# Altium footprint library con-molex-micro-fit-3_0.PCBLIB: 194 footprints (part 6 of 13)
Each footprint in its own frame and in the unit in brackets; x right, y up, seen from the top. Pads: shape width x height; smd on the part's side, far side on the other; paste and mask are expansions set on the pad; w line width, h text height; cw(c..) or ccw(c..) is an arc to the next point about the centre after c.
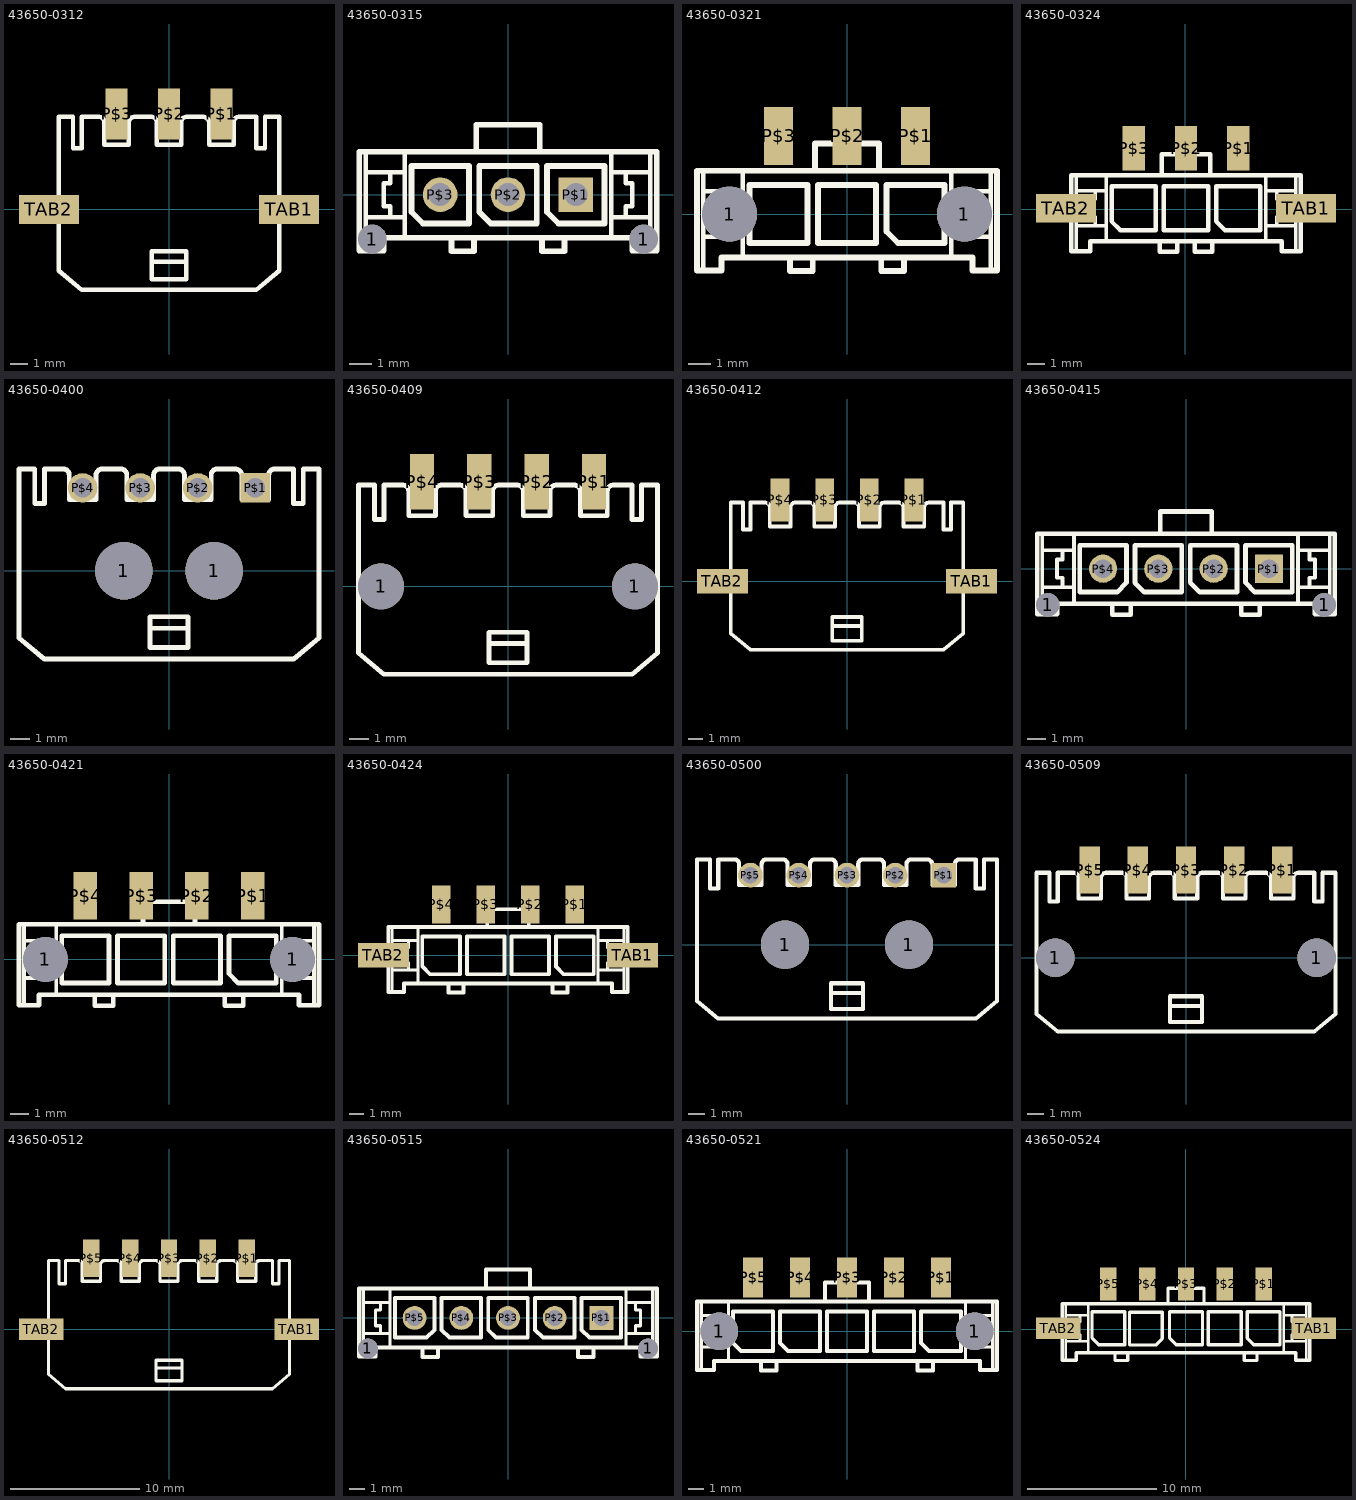
[diagram p5: the footprints below, top view; thin cyan lines are the x and y axes]

## 43650-0312 [mm]
pads (5):
  rect 1.27x2.92 smd: P$1(3,5.48) P$2(0,5.48) P$3(-3,5.48)
  rect 3.43x1.65 smd: TAB1(6.88,0) TAB2(-6.88,0)
Top Overlay:
  lines w0.254: -1,-3 -1,-4 1,-4 1,-3 ; -1,-3 -1,-2.4 1,-2.4 1,-3 ; -1,-3 1,-3 ; -6.32,-3.5 -6.32,5.3 -5.5,5.3 -5.5,3.5 -5,3.5 -5,5.3 -4,5.3 cw(c-4,5) -3.7,5 -3.7,3.7 -2.3,3.7 -2.3,5 cw(c-2,5) -2,5.3 -1,5.3 cw(c-1,5) -0.7,5 -0.7,3.7 0.7,3.7 0.7,5 cw(c1,5) 1,5.3 2,5.3 cw(c1.95,4.95) 2.3,5 2.3,3.7 3.7,3.7 3.7,5 cw(c4,5) 4,5.3 5,5.3 5,3.5 5.5,3.5 5.5,5.3 6.32,5.3 6.32,-3.5 5,-4.6 -5,-4.6 -6.32,-3.5

## 43650-0315 [mm]
pads (5):
  round 1.27 hole 1.27: 1(-6,-1.96) 1(6,-1.96)
  rect 1.53x1.53 hole 1.02: P$1(3,0)
  round 1.53 hole 1.02: P$2(0,0) P$3(-3,0)
Top Overlay:
  lines w0.2: -6.3,-2.47 -6.3,-1 ; -6.3,1.9 -6.3,1 ; -4.57,-1.9 -4.57,-1 ; -4.57,1.9 -4.57,1 ; 4.57,-1.9 4.57,-1 ; 4.57,1.9 4.57,1 ; 6.3,-2.47 6.3,-1 ; 6.3,1.9 6.3,1 ; -6.3,-1 -6.3,1 ; -6.3,-1 -5.2,-1 ; -6.3,1 -5.2,1 ; -5.2,-1 -4.57,-1 ; -5.2,-1 -5.2,-0.5 -5.5,-0.5 -5.5,0.5 -5.2,0.5 -5.2,1 ; -5.2,1 -4.57,1 ; -4.57,-1 -4.57,1 ; 4.57,-1 4.57,1 ; 4.57,-1 5.2,-1 ; 4.57,1 5.2,1 ; 5.2,-1 6.3,-1 ; 5.2,-1 5.2,-0.5 5.5,-0.5 5.5,0.5 5.2,0.5 5.2,1 ; 5.2,1 6.3,1 ; 6.3,-1 6.3,1
  lines w0.254: -2.5,-1.9 -1.5,-1.9 ; -2.5,-1.9 -4.57,-1.9 -5.5,-1.9 -5.5,-2.47 -6.3,-2.47 -6.575,-2.47 -6.575,1.9 -6.3,1.9 -4.57,1.9 -1.4,1.9 ; -2.5,-1.9 -2.5,-2.5 -1.5,-2.5 -1.5,-1.9 ; -1.5,-1.9 1.5,-1.9 ; -1.4,1.9 1.4,1.9 ; -1.4,1.9 -1.4,3.1 1.4,3.1 1.4,1.9 ; 1.4,1.9 4.57,1.9 6.3,1.9 6.575,1.9 6.575,-2.47 6.3,-2.47 5.5,-2.47 5.5,-1.9 4.57,-1.9 2.5,-1.9 ; 1.5,-1.9 2.5,-1.9 ; 1.5,-1.9 1.5,-2.5 2.5,-2.5 2.5,-1.9 ; -4.27,-0.762 -4.27,1.27 -1.73,1.27 -1.73,-1.27 -3.762,-1.27 -4.27,-0.762 ; -1.27,-0.762 -1.27,1.27 1.27,1.27 1.27,-1.27 -0.762,-1.27 -1.27,-0.762 ; 1.73,-0.762 1.73,1.27 4.27,1.27 4.27,-1.27 2.238,-1.27 1.73,-0.762

## 43650-0321 [mm]
pads (5):
  round 2.41 hole 2.41: 1(-5.15,0) 1(5.15,0)
  rect 1.27x2.54 smd: P$1(3,3.43) P$2(0,3.43) P$3(-3,3.43)
Top Overlay:
  lines w0.2: -6.3,-2.47 -6.3,-1 ; -6.3,1.9 -6.3,1 ; -4.57,-1.9 -4.57,-1 ; -4.57,1.9 -4.57,1 ; 4.57,-1.9 4.57,-1 ; 4.57,1.9 4.57,1 ; 6.3,-2.47 6.3,-1 ; 6.3,1.9 6.3,1 ; -6.3,-1 -6.3,1 ; -6.3,-1 -5.2,-1 ; -6.3,1 -5.2,1 ; -5.2,-1 -4.57,-1 ; -5.2,-1 -5.2,-0.5 -5.5,-0.5 -5.5,0.5 -5.2,0.5 -5.2,1 ; -5.2,1 -4.57,1 ; -4.57,-1 -4.57,1 ; 4.57,-1 4.57,1 ; 4.57,-1 5.2,-1 ; 4.57,1 5.2,1 ; 5.2,-1 6.3,-1 ; 5.2,-1 5.2,-0.5 5.5,-0.5 5.5,0.5 5.2,0.5 5.2,1 ; 5.2,1 6.3,1 ; 6.3,-1 6.3,1
  lines w0.254: -2.5,-1.9 -1.5,-1.9 ; -2.5,-1.9 -4.57,-1.9 -5.5,-1.9 -5.5,-2.47 -6.3,-2.47 -6.575,-2.47 -6.575,1.9 -6.3,1.9 -4.57,1.9 -1.4,1.9 ; -2.5,-1.9 -2.5,-2.5 -1.5,-2.5 -1.5,-1.9 ; -1.5,-1.9 1.5,-1.9 ; -1.4,1.9 1.4,1.9 ; -1.4,1.9 -1.4,3.1 1.4,3.1 1.4,1.9 ; 1.4,1.9 4.57,1.9 6.3,1.9 6.575,1.9 6.575,-2.47 6.3,-2.47 5.5,-2.47 5.5,-1.9 4.57,-1.9 2.5,-1.9 ; 1.5,-1.9 2.5,-1.9 ; 1.5,-1.9 1.5,-2.5 2.5,-2.5 2.5,-1.9 ; -4.27,-1.27 -1.73,-1.27 -1.73,1.27 -4.27,1.27 -4.27,-1.27 ; -1.27,-1.27 1.27,-1.27 1.27,1.27 -1.27,1.27 -1.27,-1.27 ; 1.73,-0.762 1.73,1.27 4.27,1.27 4.27,-1.27 2.238,-1.27 1.73,-0.762

## 43650-0324 [mm]
pads (5):
  rect 1.27x2.54 smd: P$1(3.036,3.503) P$2(0.036,3.503) P$3(-2.964,3.503)
  rect 3.43x1.65 smd: TAB1(6.926,0.073) TAB2(-6.854,0.073)
Top Overlay:
  lines w0.2: -6.264,-2.397 -6.264,-0.927 ; -6.264,1.973 -6.264,1.073 ; -4.534,-1.827 -4.534,-0.927 ; -4.534,1.973 -4.534,1.073 ; 4.606,-1.827 4.606,-0.927 ; 4.606,1.973 4.606,1.073 ; 6.336,-2.397 6.336,-0.927 ; 6.336,1.973 6.336,1.073 ; -6.264,-0.927 -6.264,1.073 ; -6.264,-0.927 -5.164,-0.927 ; -6.264,1.073 -5.164,1.073 ; -5.164,-0.927 -4.534,-0.927 ; -5.164,-0.927 -5.164,-0.427 -5.464,-0.427 -5.464,0.573 -5.164,0.573 -5.164,1.073 ; -5.164,1.073 -4.534,1.073 ; -4.534,-0.927 -4.534,1.073 ; 4.606,-0.927 4.606,1.073 ; 4.606,-0.927 5.236,-0.927 ; 4.606,1.073 5.236,1.073 ; 5.236,-0.927 6.336,-0.927 ; 5.236,-0.927 5.236,-0.427 5.536,-0.427 5.536,0.573 5.236,0.573 5.236,1.073 ; 5.236,1.073 6.336,1.073 ; 6.336,-0.927 6.336,1.073
  lines w0.254: -1.464,-1.827 -0.464,-1.827 ; -1.464,-1.827 -4.534,-1.827 -5.464,-1.827 -5.464,-2.397 -6.264,-2.397 -6.539,-2.397 -6.539,1.973 -6.264,1.973 -4.534,1.973 -1.364,1.973 ; -1.464,-1.827 -1.464,-2.427 -0.464,-2.427 -0.464,-1.827 ; -1.364,1.973 1.436,1.973 ; -1.364,1.973 -1.364,3.173 1.436,3.173 1.436,1.973 ; -0.464,-1.827 0.536,-1.827 ; 0.536,-1.827 1.536,-1.827 ; 0.536,-1.827 0.536,-2.427 1.536,-2.427 1.536,-1.827 ; 1.436,1.973 4.606,1.973 6.336,1.973 6.611,1.973 6.611,-2.397 6.336,-2.397 5.536,-2.397 5.536,-1.827 4.606,-1.827 1.536,-1.827 ; -4.234,-0.689 -4.234,1.343 -1.694,1.343 -1.694,-1.197 -3.726,-1.197 -4.234,-0.689 ; -1.234,-1.197 1.306,-1.197 1.306,1.343 -1.234,1.343 -1.234,-1.197 ; 1.766,-0.689 1.766,1.343 4.306,1.343 4.306,-1.197 2.274,-1.197 1.766,-0.689

## 43650-0400 [mm]
pads (6):
  round 3 hole 3: 1(-2.35,0) 1(2.35,0)
  rect 1.53x1.53 hole 1.02: P$1(4.5,4.32)
  round 1.53 hole 1.02: P$2(1.5,4.32) P$3(-1.5,4.32) P$4(-4.5,4.32)
Top Overlay:
  lines w0.254: -1,-3 -1,-4 1,-4 1,-3 ; -1,-3 -1,-2.4 1,-2.4 1,-3 ; -1,-3 1,-3 ; -7.82,-3.5 -7.82,5.3 -7,5.3 -7,3.5 -6.5,3.5 -6.5,5.3 -5.5,5.3 cw(c-5.5,5) -5.2,5 -5.2,3.7 -3.8,3.7 -3.8,5 cw(c-3.5,5) -3.5,5.3 -2.5,5.3 cw(c-2.5,5) -2.2,5 -2.2,3.7 -0.8,3.7 -0.8,5 cw(c-0.5,5) -0.5,5.3 0.5,5.3 cw(c0.5,5) 0.8,5 0.8,3.7 2.2,3.7 2.2,5 cw(c2.5,5) 2.5,5.3 3.5,5.3 cw(c3.45,4.95) 3.8,5 3.8,3.7 5.2,3.7 5.2,5 cw(c5.5,5) 5.5,5.3 6.5,5.3 6.5,3.5 7,3.5 7,5.3 7.82,5.3 7.82,-3.5 6.5,-4.6 -6.5,-4.6 -7.82,-3.5

## 43650-0409 [mm]
pads (6):
  round 2.41 hole 2.41: 1(-6.65,0) 1(6.65,0)
  rect 1.27x2.92 smd: P$1(4.5,5.48) P$2(1.5,5.48) P$3(-1.5,5.48) P$4(-4.5,5.48)
Top Overlay:
  lines w0.254: -1,-3 -1,-4 1,-4 1,-3 ; -1,-3 -1,-2.4 1,-2.4 1,-3 ; -1,-3 1,-3 ; -7.82,-3.5 -7.82,5.3 -7,5.3 -7,3.5 -6.5,3.5 -6.5,5.3 -5.5,5.3 cw(c-5.5,5) -5.2,5 -5.2,3.7 -3.8,3.7 -3.8,5 cw(c-3.5,5) -3.5,5.3 -2.5,5.3 cw(c-2.5,5) -2.2,5 -2.2,3.7 -0.8,3.7 -0.8,5 cw(c-0.5,5) -0.5,5.3 0.5,5.3 cw(c0.5,5) 0.8,5 0.8,3.7 2.2,3.7 2.2,5 cw(c2.5,5) 2.5,5.3 3.5,5.3 cw(c3.45,4.95) 3.8,5 3.8,3.7 5.2,3.7 5.2,5 cw(c5.5,5) 5.5,5.3 6.5,5.3 6.5,3.5 7,3.5 7,5.3 7.82,5.3 7.82,-3.5 6.5,-4.6 -6.5,-4.6 -7.82,-3.5

## 43650-0412 [mm]
pads (6):
  rect 1.27x2.92 smd: P$1(4.5,5.48) P$2(1.5,5.48) P$3(-1.5,5.48) P$4(-4.5,5.48)
  rect 3.43x1.65 smd: TAB1(8.38,0) TAB2(-8.38,0)
Top Overlay:
  lines w0.254: -1,-3 -1,-4 1,-4 1,-3 ; -1,-3 -1,-2.4 1,-2.4 1,-3 ; -1,-3 1,-3 ; -7.82,-3.5 -7.82,5.3 -7,5.3 -7,3.5 -6.5,3.5 -6.5,5.3 -5.5,5.3 cw(c-5.5,5) -5.2,5 -5.2,3.7 -3.8,3.7 -3.8,5 cw(c-3.5,5) -3.5,5.3 -2.5,5.3 cw(c-2.5,5) -2.2,5 -2.2,3.7 -0.8,3.7 -0.8,5 cw(c-0.5,5) -0.5,5.3 0.5,5.3 cw(c0.5,5) 0.8,5 0.8,3.7 2.2,3.7 2.2,5 cw(c2.5,5) 2.5,5.3 3.5,5.3 cw(c3.45,4.95) 3.8,5 3.8,3.7 5.2,3.7 5.2,5 cw(c5.5,5) 5.5,5.3 6.5,5.3 6.5,3.5 7,3.5 7,5.3 7.82,5.3 7.82,-3.5 6.5,-4.6 -6.5,-4.6 -7.82,-3.5

## 43650-0415 [mm]
pads (6):
  round 1.27 hole 1.27: 1(-7.5,-1.96) 1(7.5,-1.96)
  rect 1.53x1.53 hole 1.02: P$1(4.5,0)
  round 1.53 hole 1.02: P$2(1.5,0) P$3(-1.5,0) P$4(-4.5,0)
Top Overlay:
  lines w0.2: -7.8,-2.47 -7.8,-1 ; -7.8,1.9 -7.8,1 ; -6.07,-1.9 -6.07,-1 ; -6.07,1.9 -6.07,1 ; 6.07,-1.9 6.07,-1 ; 6.07,1.9 6.07,1 ; 7.8,-2.47 7.8,-1 ; 7.8,1.9 7.8,1 ; -7.8,-1 -7.8,1 ; -7.8,-1 -6.7,-1 ; -7.8,1 -6.7,1 ; -6.7,-1 -6.07,-1 ; -6.7,-1 -6.7,-0.5 -7,-0.5 -7,0.5 -6.7,0.5 -6.7,1 ; -6.7,1 -6.07,1 ; -6.07,-1 -6.07,1 ; 6.07,-1 6.07,1 ; 6.07,-1 6.7,-1 ; 6.07,1 6.7,1 ; 6.7,-1 7.8,-1 ; 6.7,-1 6.7,-0.5 7,-0.5 7,0.5 6.7,0.5 6.7,1 ; 6.7,1 7.8,1 ; 7.8,-1 7.8,1
  lines w0.254: -4,-1.9 -3,-1.9 ; -4,-1.9 -6.07,-1.9 -7,-1.9 -7,-2.47 -7.8,-2.47 -8.075,-2.47 -8.075,1.9 -7.8,1.9 -6.07,1.9 -1.4,1.9 ; -4,-1.9 -4,-2.5 -3,-2.5 -3,-1.9 ; -3,-1.9 3,-1.9 ; -1.4,1.9 1.4,1.9 ; -1.4,1.9 -1.4,3.1 1.4,3.1 1.4,1.9 ; 1.4,1.9 6.07,1.9 7.8,1.9 8.075,1.9 8.075,-2.47 7.8,-2.47 7,-2.47 7,-1.9 6.07,-1.9 4,-1.9 ; 3,-1.9 4,-1.9 ; 3,-1.9 3,-2.5 4,-2.5 4,-1.9 ; -5.77,-1.27 -5.77,1.27 -3.23,1.27 -3.23,-0.762 -3.738,-1.27 -5.77,-1.27 ; -2.77,-0.762 -2.77,1.27 -0.23,1.27 -0.23,-1.27 -2.262,-1.27 -2.77,-0.762 ; 0.23,-0.762 0.23,1.27 2.77,1.27 2.77,-1.27 0.738,-1.27 0.23,-0.762 ; 3.23,-0.762 3.23,1.27 5.77,1.27 5.77,-1.27 3.738,-1.27 3.23,-0.762

## 43650-0421 [mm]
pads (6):
  round 2.41 hole 2.41: 1(-6.65,0) 1(6.65,0)
  rect 1.27x2.54 smd: P$1(4.5,3.43) P$2(1.5,3.43) P$3(-1.5,3.43) P$4(-4.5,3.43)
Top Overlay:
  lines w0.2: -7.8,-2.47 -7.8,-1 ; -7.8,1.9 -7.8,1 ; -6.07,-1.9 -6.07,-1 ; -6.07,1.9 -6.07,1 ; 6.07,-1.9 6.07,-1 ; 6.07,1.9 6.07,1 ; 7.8,-2.47 7.8,-1 ; 7.8,1.9 7.8,1 ; -7.8,-1 -7.8,1 ; -7.8,-1 -6.7,-1 ; -7.8,1 -6.7,1 ; -6.7,-1 -6.07,-1 ; -6.7,-1 -6.7,-0.5 -7,-0.5 -7,0.5 -6.7,0.5 -6.7,1 ; -6.7,1 -6.07,1 ; -6.07,-1 -6.07,1 ; 6.07,-1 6.07,1 ; 6.07,-1 6.7,-1 ; 6.07,1 6.7,1 ; 6.7,-1 7.8,-1 ; 6.7,-1 6.7,-0.5 7,-0.5 7,0.5 6.7,0.5 6.7,1 ; 6.7,1 7.8,1 ; 7.8,-1 7.8,1
  lines w0.254: -4,-1.9 -3,-1.9 ; -4,-1.9 -6.07,-1.9 -7,-1.9 -7,-2.47 -7.8,-2.47 -8.075,-2.47 -8.075,1.9 -7.8,1.9 -6.07,1.9 -1.4,1.9 ; -4,-1.9 -4,-2.5 -3,-2.5 -3,-1.9 ; -3,-1.9 3,-1.9 ; -1.4,1.9 1.4,1.9 ; -1.4,1.9 -1.4,3.1 1.4,3.1 1.4,1.9 ; 1.4,1.9 6.07,1.9 7.8,1.9 8.075,1.9 8.075,-2.47 7.8,-2.47 7,-2.47 7,-1.9 6.07,-1.9 4,-1.9 ; 3,-1.9 4,-1.9 ; 3,-1.9 3,-2.5 4,-2.5 4,-1.9 ; -5.77,-1.27 -3.23,-1.27 -3.23,1.27 -5.77,1.27 -5.77,-1.27 ; -2.77,-1.27 -0.23,-1.27 -0.23,1.27 -2.77,1.27 -2.77,-1.27 ; 0.23,-1.27 2.77,-1.27 2.77,1.27 0.23,1.27 0.23,-1.27 ; 3.23,-0.762 3.23,1.27 5.77,1.27 5.77,-1.27 3.738,-1.27 3.23,-0.762

## 43650-0424 [mm]
pads (6):
  rect 1.27x2.54 smd: P$1(4.5,3.43) P$2(1.5,3.43) P$3(-1.5,3.43) P$4(-4.5,3.43)
  rect 3.43x1.65 smd: TAB1(8.39,0) TAB2(-8.39,0)
Top Overlay:
  lines w0.2: -7.8,-2.47 -7.8,-1 ; -7.8,1.9 -7.8,1 ; -6.07,-1.9 -6.07,-1 ; -6.07,1.9 -6.07,1 ; 6.07,-1.9 6.07,-1 ; 6.07,1.9 6.07,1 ; 7.8,-2.47 7.8,-1 ; 7.8,1.9 7.8,1 ; -7.8,-1 -7.8,1 ; -7.8,-1 -6.7,-1 ; -7.8,1 -6.7,1 ; -6.7,-1 -6.07,-1 ; -6.7,-1 -6.7,-0.5 -7,-0.5 -7,0.5 -6.7,0.5 -6.7,1 ; -6.7,1 -6.07,1 ; -6.07,-1 -6.07,1 ; 6.07,-1 6.07,1 ; 6.07,-1 6.7,-1 ; 6.07,1 6.7,1 ; 6.7,-1 7.8,-1 ; 6.7,-1 6.7,-0.5 7,-0.5 7,0.5 6.7,0.5 6.7,1 ; 6.7,1 7.8,1 ; 7.8,-1 7.8,1
  lines w0.254: -4,-1.9 -3,-1.9 ; -4,-1.9 -6.07,-1.9 -7,-1.9 -7,-2.47 -7.8,-2.47 -8.075,-2.47 -8.075,1.9 -7.8,1.9 -6.07,1.9 -1.4,1.9 ; -4,-1.9 -4,-2.5 -3,-2.5 -3,-1.9 ; -3,-1.9 3,-1.9 ; -1.4,1.9 1.4,1.9 ; -1.4,1.9 -1.4,3.1 1.4,3.1 1.4,1.9 ; 1.4,1.9 6.07,1.9 7.8,1.9 8.075,1.9 8.075,-2.47 7.8,-2.47 7,-2.47 7,-1.9 6.07,-1.9 4,-1.9 ; 3,-1.9 4,-1.9 ; 3,-1.9 3,-2.5 4,-2.5 4,-1.9 ; -5.77,-0.762 -5.77,1.27 -3.23,1.27 -3.23,-1.27 -5.262,-1.27 -5.77,-0.762 ; -2.77,-1.27 -0.23,-1.27 -0.23,1.27 -2.77,1.27 -2.77,-1.27 ; 0.23,-1.27 2.77,-1.27 2.77,1.27 0.23,1.27 0.23,-1.27 ; 3.23,-0.762 3.23,1.27 5.77,1.27 5.77,-1.27 3.738,-1.27 3.23,-0.762

## 43650-0500 [mm]
pads (7):
  round 3 hole 3: 1(-3.85,0) 1(3.85,0)
  rect 1.53x1.53 hole 1.02: P$1(6,4.32)
  round 1.53 hole 1.02: P$2(3,4.32) P$3(0,4.32) P$4(-3,4.32) P$5(-6,4.32)
Top Overlay:
  lines w0.254: -1,-3 -1,-4 1,-4 1,-3 ; -1,-3 -1,-2.4 1,-2.4 1,-3 ; -1,-3 1,-3 ; -9.32,-3.5 -9.32,5.3 -8.5,5.3 -8.5,3.5 -8,3.5 -8,5.3 -7,5.3 cw(c-7,5) -6.7,5 -6.7,3.7 -5.3,3.7 -5.3,5 cw(c-5,5) -5,5.3 -4,5.3 cw(c-4,5) -3.7,5 -3.7,3.7 -2.3,3.7 -2.3,5 cw(c-2,5) -2,5.3 -1,5.3 cw(c-1,5) -0.7,5 -0.7,3.7 0.7,3.7 0.7,5 cw(c1,5) 1,5.3 2,5.3 cw(c2,5) 2.3,5 2.3,3.7 3.7,3.7 3.7,5 cw(c4,5) 4,5.3 5,5.3 cw(c4.95,4.95) 5.3,5 5.3,3.7 6.7,3.7 6.7,5 cw(c7,5) 7,5.3 8,5.3 8,3.5 8.5,3.5 8.5,5.3 9.32,5.3 9.32,-3.5 8,-4.6 -8,-4.6 -9.32,-3.5

## 43650-0509 [mm]
pads (7):
  round 2.41 hole 2.41: 1(-8.15,0) 1(8.15,0)
  rect 1.27x2.92 smd: P$1(6,5.48) P$2(3,5.48) P$3(0,5.48) P$4(-3,5.48) P$5(-6,5.48)
Top Overlay:
  lines w0.254: -1,-3 -1,-4 1,-4 1,-3 ; -1,-3 -1,-2.4 1,-2.4 1,-3 ; -1,-3 1,-3 ; -9.32,-3.5 -9.32,5.3 -8.5,5.3 -8.5,3.5 -8,3.5 -8,5.3 -7,5.3 cw(c-7,5) -6.7,5 -6.7,3.7 -5.3,3.7 -5.3,5 cw(c-5,5) -5,5.3 -4,5.3 cw(c-4,5) -3.7,5 -3.7,3.7 -2.3,3.7 -2.3,5 cw(c-2,5) -2,5.3 -1,5.3 cw(c-1,5) -0.7,5 -0.7,3.7 0.7,3.7 0.7,5 cw(c1,5) 1,5.3 2,5.3 cw(c2,5) 2.3,5 2.3,3.7 3.7,3.7 3.7,5 cw(c4,5) 4,5.3 5,5.3 cw(c4.95,4.95) 5.3,5 5.3,3.7 6.7,3.7 6.7,5 cw(c7,5) 7,5.3 8,5.3 8,3.5 8.5,3.5 8.5,5.3 9.32,5.3 9.32,-3.5 8,-4.6 -8,-4.6 -9.32,-3.5

## 43650-0512 [mm]
pads (7):
  rect 1.27x2.92 smd: P$1(6,5.48) P$2(3,5.48) P$3(0,5.48) P$4(-3,5.48) P$5(-6,5.48)
  rect 3.43x1.65 smd: TAB1(9.88,0) TAB2(-9.88,0)
Top Overlay:
  lines w0.254: -1,-3 -1,-4 1,-4 1,-3 ; -1,-3 -1,-2.4 1,-2.4 1,-3 ; -1,-3 1,-3 ; -9.32,-3.5 -9.32,5.3 -8.5,5.3 -8.5,3.5 -8,3.5 -8,5.3 -7,5.3 cw(c-7,5) -6.7,5 -6.7,3.7 -5.3,3.7 -5.3,5 cw(c-5,5) -5,5.3 -4,5.3 cw(c-4,5) -3.7,5 -3.7,3.7 -2.3,3.7 -2.3,5 cw(c-2,5) -2,5.3 -1,5.3 cw(c-1,5) -0.7,5 -0.7,3.7 0.7,3.7 0.7,5 cw(c1,5) 1,5.3 2,5.3 cw(c2,5) 2.3,5 2.3,3.7 3.7,3.7 3.7,5 cw(c4,5) 4,5.3 5,5.3 cw(c4.95,4.95) 5.3,5 5.3,3.7 6.7,3.7 6.7,5 cw(c7,5) 7,5.3 8,5.3 8,3.5 8.5,3.5 8.5,5.3 9.32,5.3 9.32,-3.5 8,-4.6 -8,-4.6 -9.32,-3.5

## 43650-0515 [mm]
pads (7):
  round 1.27 hole 1.27: 1(-9,-1.96) 1(9,-1.96)
  rect 1.53x1.53 hole 1.02: P$1(6,0)
  round 1.53 hole 1.02: P$2(3,0) P$3(0,0) P$4(-3,0) P$5(-6,0)
Top Overlay:
  lines w0.2: -9.3,-2.47 -9.3,-1 ; -9.3,1.9 -9.3,1 ; -7.57,-1.9 -7.57,-1 ; -7.57,1.9 -7.57,1 ; 7.57,-1.9 7.57,-1 ; 7.57,1.9 7.57,1 ; 9.3,-2.47 9.3,-1 ; 9.3,1.9 9.3,1 ; -9.3,-1 -9.3,1 ; -9.3,-1 -8.2,-1 ; -9.3,1 -8.2,1 ; -8.2,-1 -7.57,-1 ; -8.2,-1 -8.2,-0.5 -8.5,-0.5 -8.5,0.5 -8.2,0.5 -8.2,1 ; -8.2,1 -7.57,1 ; -7.57,-1 -7.57,1 ; 7.57,-1 7.57,1 ; 7.57,-1 8.2,-1 ; 7.57,1 8.2,1 ; 8.2,-1 9.3,-1 ; 8.2,-1 8.2,-0.5 8.5,-0.5 8.5,0.5 8.2,0.5 8.2,1 ; 8.2,1 9.3,1 ; 9.3,-1 9.3,1
  lines w0.254: -5.5,-1.9 -4.5,-1.9 ; -5.5,-1.9 -7.57,-1.9 -8.5,-1.9 -8.5,-2.47 -9.3,-2.47 -9.575,-2.47 -9.575,1.9 -9.3,1.9 -7.57,1.9 -1.4,1.9 ; -5.5,-1.9 -5.5,-2.5 -4.5,-2.5 -4.5,-1.9 ; -4.5,-1.9 4.5,-1.9 ; -1.4,1.9 1.4,1.9 ; -1.4,1.9 -1.4,3.1 1.4,3.1 1.4,1.9 ; 1.4,1.9 7.57,1.9 9.3,1.9 9.575,1.9 9.575,-2.47 9.3,-2.47 8.5,-2.47 8.5,-1.9 7.57,-1.9 5.5,-1.9 ; 4.5,-1.9 5.5,-1.9 ; 4.5,-1.9 4.5,-2.5 5.5,-2.5 5.5,-1.9 ; -7.27,-1.27 -7.27,1.27 -4.73,1.27 -4.73,-0.762 -5.238,-1.27 -7.27,-1.27 ; -4.27,-0.762 -4.27,1.27 -1.73,1.27 -1.73,-1.27 -3.762,-1.27 -4.27,-0.762 ; -1.27,-0.762 -1.27,1.27 1.27,1.27 1.27,-1.27 -0.762,-1.27 -1.27,-0.762 ; 1.73,-0.762 1.73,1.27 4.27,1.27 4.27,-1.27 2.238,-1.27 1.73,-0.762 ; 4.73,-0.762 4.73,1.27 7.27,1.27 7.27,-1.27 5.238,-1.27 4.73,-0.762

## 43650-0521 [mm]
pads (7):
  round 2.41 hole 2.41: 1(-8.15,0) 1(8.15,0)
  rect 1.27x2.54 smd: P$1(6,3.43) P$2(3,3.43) P$3(0,3.43) P$4(-3,3.43) P$5(-6,3.43)
Top Overlay:
  lines w0.2: -9.3,-2.47 -9.3,-1 ; -9.3,1.9 -9.3,1 ; -7.57,-1.9 -7.57,-1 ; -7.57,1.9 -7.57,1 ; 7.57,-1.9 7.57,-1 ; 7.57,1.9 7.57,1 ; 9.3,-2.47 9.3,-1 ; 9.3,1.9 9.3,1 ; -9.3,-1 -9.3,1 ; -9.3,-1 -8.2,-1 ; -9.3,1 -8.2,1 ; -8.2,-1 -7.57,-1 ; -8.2,-1 -8.2,-0.5 -8.5,-0.5 -8.5,0.5 -8.2,0.5 -8.2,1 ; -8.2,1 -7.57,1 ; -7.57,-1 -7.57,1 ; 7.57,-1 7.57,1 ; 7.57,-1 8.2,-1 ; 7.57,1 8.2,1 ; 8.2,-1 9.3,-1 ; 8.2,-1 8.2,-0.5 8.5,-0.5 8.5,0.5 8.2,0.5 8.2,1 ; 8.2,1 9.3,1 ; 9.3,-1 9.3,1
  lines w0.254: -5.5,-1.9 -4.5,-1.9 ; -5.5,-1.9 -7.57,-1.9 -8.5,-1.9 -8.5,-2.47 -9.3,-2.47 -9.575,-2.47 -9.575,1.9 -9.3,1.9 -7.57,1.9 -1.4,1.9 ; -5.5,-1.9 -5.5,-2.5 -4.5,-2.5 -4.5,-1.9 ; -4.5,-1.9 4.5,-1.9 ; -1.4,1.9 1.4,1.9 ; -1.4,1.9 -1.4,3.1 1.4,3.1 1.4,1.9 ; 1.4,1.9 7.57,1.9 9.3,1.9 9.575,1.9 9.575,-2.47 9.3,-2.47 8.5,-2.47 8.5,-1.9 7.57,-1.9 5.5,-1.9 ; 4.5,-1.9 5.5,-1.9 ; 4.5,-1.9 4.5,-2.5 5.5,-2.5 5.5,-1.9 ; -7.27,-0.762 -7.27,1.27 -4.73,1.27 -4.73,-1.27 -6.762,-1.27 -7.27,-0.762 ; -4.27,-0.762 -4.27,1.27 -1.73,1.27 -1.73,-1.27 -3.762,-1.27 -4.27,-0.762 ; -1.27,-1.27 1.27,-1.27 1.27,1.27 -1.27,1.27 -1.27,-1.27 ; 1.73,-1.27 4.27,-1.27 4.27,1.27 1.73,1.27 1.73,-1.27 ; 4.73,-0.762 4.73,1.27 7.27,1.27 7.27,-1.27 5.238,-1.27 4.73,-0.762

## 43650-0524 [mm]
pads (7):
  rect 1.27x2.54 smd: P$1(6.036,3.503) P$2(3.036,3.503) P$3(0.036,3.503) P$4(-2.964,3.503) P$5(-5.964,3.503)
  rect 3.43x1.65 smd: TAB1(9.926,0.073) TAB2(-9.854,0.073)
Top Overlay:
  lines w0.2: -9.264,-2.397 -9.264,-0.927 ; -9.264,1.973 -9.264,1.073 ; -7.534,-1.827 -7.534,-0.927 ; -7.534,1.973 -7.534,1.073 ; 7.606,-1.827 7.606,-0.927 ; 7.606,1.973 7.606,1.073 ; 9.336,-2.397 9.336,-0.927 ; 9.336,1.973 9.336,1.073 ; -9.264,-0.927 -9.264,1.073 ; -9.264,-0.927 -8.164,-0.927 ; -9.264,1.073 -8.164,1.073 ; -8.164,-0.927 -7.534,-0.927 ; -8.164,-0.927 -8.164,-0.427 -8.464,-0.427 -8.464,0.573 -8.164,0.573 -8.164,1.073 ; -8.164,1.073 -7.534,1.073 ; -7.534,-0.927 -7.534,1.073 ; 7.606,-0.927 7.606,1.073 ; 7.606,-0.927 8.236,-0.927 ; 7.606,1.073 8.236,1.073 ; 8.236,-0.927 9.336,-0.927 ; 8.236,-0.927 8.236,-0.427 8.536,-0.427 8.536,0.573 8.236,0.573 8.236,1.073 ; 8.236,1.073 9.336,1.073 ; 9.336,-0.927 9.336,1.073
  lines w0.254: -5.464,-1.827 -4.464,-1.827 ; -5.464,-1.827 -7.534,-1.827 -8.464,-1.827 -8.464,-2.397 -9.264,-2.397 -9.539,-2.397 -9.539,1.973 -9.264,1.973 -7.534,1.973 -1.364,1.973 ; -5.464,-1.827 -5.464,-2.427 -4.464,-2.427 -4.464,-1.827 ; -4.464,-1.827 4.536,-1.827 ; -1.364,1.973 1.436,1.973 ; -1.364,1.973 -1.364,3.173 1.436,3.173 1.436,1.973 ; 1.436,1.973 7.606,1.973 9.336,1.973 9.611,1.973 9.611,-2.397 9.336,-2.397 8.536,-2.397 8.536,-1.827 7.606,-1.827 5.536,-1.827 ; 4.536,-1.827 5.536,-1.827 ; 4.536,-1.827 4.536,-2.427 5.536,-2.427 5.536,-1.827 ; -7.234,-0.689 -7.234,1.343 -4.694,1.343 -4.694,-1.197 -6.726,-1.197 -7.234,-0.689 ; -4.343,-1.234 -4.343,1.306 -1.803,1.306 -1.803,-0.726 -2.311,-1.234 -4.343,-1.234 ; -1.234,-0.689 -1.234,1.343 1.306,1.343 1.306,-1.197 -0.726,-1.197 -1.234,-0.689 ; 1.766,-1.197 4.306,-1.197 4.306,1.343 1.766,1.343 1.766,-1.197 ; 4.766,-0.689 4.766,1.343 7.306,1.343 7.306,-1.197 5.274,-1.197 4.766,-0.689